# Altium integrated library DRC-V-391K.IntLib: 1 symbol
Pins are listed as number, name and electrical type; pins without a type are passive.

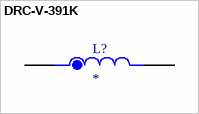
[diagram p0: symbol DRC-V-391K]

## DRC-V-391K
designator L?
Radial Coil Inductor; MF: Bel Fuse; MP: DRC-V-391K; Price: None; SnapEDA_Link: https://www.snapeda.com/parts/DRC-V-391K/Bel+Fuse/view-part/?ref=snap; Purchase-URL: https://pricing.snapeda.com/search/part/DRC-V-391K/?ref=eda; Check_prices: https://www.snapeda.com/parts/DRC-V-391K/Bel+Fuse/view-part/?ref=eda; Value: *; Availability: In Stock; Package: None
footprint IND_DRC-V-391K
pins: 1, 2